# Altium schematic symbol library Schlib1.SchLib: 3 symbols
Pins are listed as number, name and electrical type; pins without a type are passive.

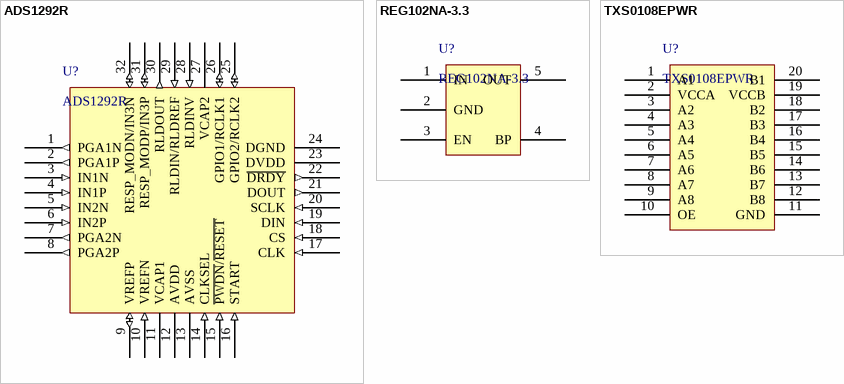
[diagram p0: symbols ADS1292R to TXS0108EPWR]

## ADS1292R
designator U?
footprint ADS1292R
pins: 1 PGA1N (out), 2 PGA1P (out), 3 IN1N (in), 4 IN1P (in), 5 IN2N (in), 6 IN2P (in), 7 PGA2N (out), 8 PGA2P (out), 9 VREFP (io), 10 VREFN (in), 11 VCAP1, 12 AVDD (power), 13 AVSS (power), 14 CLKSEL (in), 15 ~{PWDN}/~{RESET} (in), 16 START (in), 17 CLK (in), 18 CS (in), 19 DIN (in), 20 SCLK (in), 21 DOUT (out), 22 ~{DRDY} (out), 23 DVDD (power), 24 DGND (power), 25 GPIO2/RCLK2 (io), 26 GPIO1/RCLK1 (io), 27 VCAP2, 28 RLDINV (in), 29 RLDIN/RLDREF (in), 30 RLDOUT (out), 31 RESP_MODP/IN3P (io), 32 RESP_MODN/IN3N (io)

## REG102NA-3.3
designator U?
footprint REG102NA-3.3
pins: 1 IN, 2 GND, 3 EN, 4 BP, 5 OUT

## TXS0108EPWR
designator U?
footprint TXS0108EPWR
pins: 1 A1, 2 VCCA, 3 A2, 4 A3, 5 A4, 6 A5, 7 A6, 8 A7, 9 A8, 10 OE, 11 GND, 12 B8, 13 B7, 14 B6, 15 B5, 16 B4, 17 B3, 18 B2, 19 VCCB, 20 B1